# Altium schematic symbol library CONN-STD-16P_2ROW_SMD.SchLib: 1 symbol
Pins are listed as number, name and electrical type; pins without a type are passive.

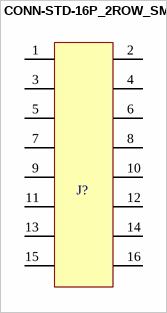
[diagram p0: symbol CONN-STD-16P_2ROW_SMD]

## CONN-STD-16P_2ROW_SMD
designator J?  (value not drawn)
pins: 1, 2, 3, 4, 5, 6, 7, 8, 9, 10, 11, 12, 13, 14, 15, 16